# Altium footprint library Phoenix Contact.PcbLib: 1 footprints
Each footprint in its own frame and in the unit in brackets; x right, y up, seen from the top. Pads: shape width x height; smd on the part's side, far side on the other; paste and mask are expansions set on the pad; w line width, h text height; cw(c..) or ccw(c..) is an arc to the next point about the centre after c.
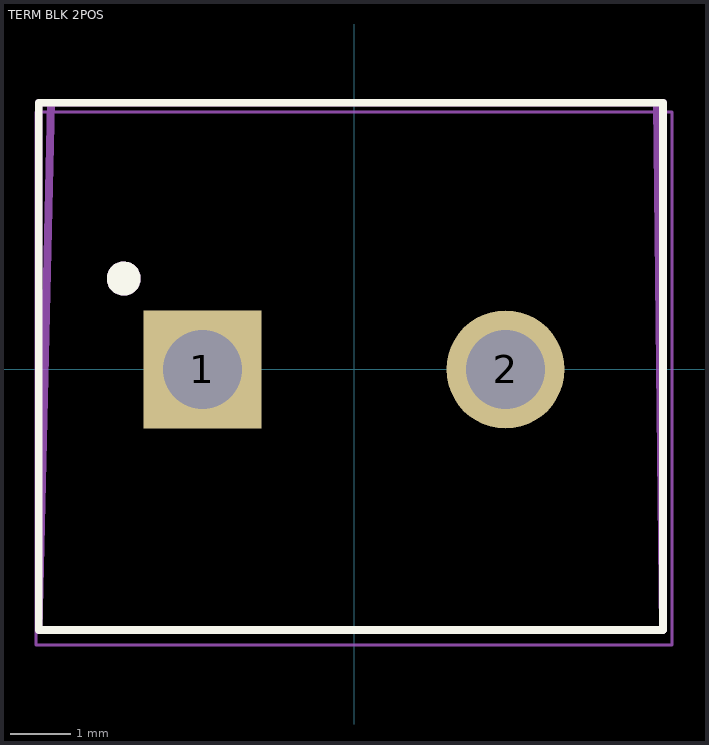
[diagram p0: the footprint, top view; thin cyan lines are the x and y axes]

## TERM BLK 2POS [mm] "TERM BLK 2POS SIDE ENTRY 5MM PCB"
pads (2):
  rect 1.95x1.95 hole 1.3: 1(-2.5,0)
  round 1.95 hole 1.3: 2(2.5,0)
Top Overlay:
  circle w0.28: c-3.8,1.5 r0.14
  lines w0.127: -5.2,-4.3 5.1,-4.3 5.1,4.4 -5.2,4.4 -5.2,-4.3
Mechanical 4:
  circle w0.28: c-3.8,1.5 r0.14
  circle w0.28: c-3.8,1.5 r0.14
  lines w0.127: -5,4.4 -5.2,-4.3 ; 5,4.4 5.1,-4.3 ; -5.2,-4.3 -5.2,4.4 ; -5.2,-4.3 5.1,-4.3 ; -5.2,-4.3 5.1,-4.3 ; -5.2,4.4 5.1,4.4 ; -5.2,4.4 5.1,4.4 ; 5.1,-4.3 5.1,4.4
Mechanical 13:
  text "'.Designator'" at -5.08,4.699 h0.7
Mechanical 16:
  lines w0.05: -5.25,-4.55 5.25,-4.55 5.25,4.25 -5.25,4.25 -5.25,-4.55
3D body "pxc_1935161_04_PT-1-5-2-5-0-H_3D.stp": height 11.41, standoff -3.49, extent -5.585,-4 4.985,5